# EAGLE library part THR-IO2 (library isysbus_doku)
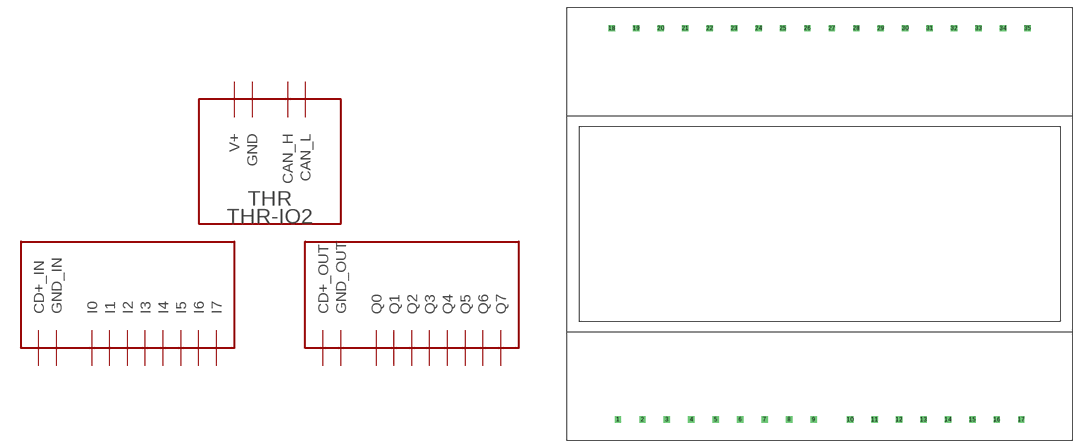
[diagram p1: symbol with the pads of THR; footprint THR]

Designator prefix -; gates G$1=THR-CAN G$2=THR-OUT G$3=THR-IN

## THR-IO2  [THR]
1  G$1:V+  pwr
2  G$1:GND  pwr
3  G$1:CAN_H
4  G$1:CAN_L
8  G$3:CD+_IN  pwr
9  G$3:GND_IN  pwr
10  G$3:I0  in
11  G$3:I1  in
12  G$3:I2  in
13  G$3:I3  in
14  G$3:I4  in
15  G$3:I5  in
16  G$3:I6  in
17  G$3:I7  in
26  G$2:CD+_OUT  pwr
27  G$2:GND_OUT  pwr
28  G$2:Q0  out
29  G$2:Q1  out
30  G$2:Q2  out
31  G$2:Q3  out
32  G$2:Q4  out
33  G$2:Q5  out
34  G$2:Q6  out
35  G$2:Q7  out

## Footprint THR (pad centres in mm)
drill 0.8 square: 1 -41.91,-40.64; 2 -36.83,-40.64; 3 -31.75,-40.64; 4 -26.67,-40.64; 5 -21.59,-40.64; 6 -16.51,-40.64; 7 -11.43,-40.64; 8 -6.35,-40.64; 9 -1.27,-40.64; 10 6.35,-40.64; 11 11.43,-40.64; 12 16.51,-40.64; 13 21.59,-40.64; 14 26.67,-40.64; 15 31.75,-40.64; 16 36.83,-40.64; 17 41.91,-40.64; 18 -43.18,40.64; 19 -38.1,40.64; 20 -33.02,40.64; 21 -27.94,40.64; 22 -22.86,40.64; 23 -17.78,40.64; 24 -12.7,40.64; 25 -7.62,40.64; 26 -2.54,40.64; 27 2.54,40.64; 28 7.62,40.64; 29 12.7,40.64; 30 17.78,40.64; 31 22.86,40.64; 32 27.94,40.64; 33 33.02,40.64; 34 38.1,40.64; 35 43.18,40.64